# Altium integrated library ECA-1HM101.IntLib: 1 symbol
Pins are listed as number, name and electrical type; pins without a type are passive.

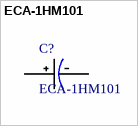
[diagram p0: symbol ECA-1HM101]

## ECA-1HM101
designator C?
Cap Aluminum Lytic 100uF 50V 20% _8 X 11.5mm_ Radial 3.5mm 250mA 2000h 85Ã‚Â°C Bulk; MF: Panasonic; SnapEDA_Link: https://www.snapeda.com/parts/ECA-1HM101/Panasonic%20Electronic%20Components/view-part/?ref=snap; Availability: Good; MP: ECA-1HM101; Package: Radial Panasonic; Price: 0.12 USD; Value: *
footprint CAPPRD350W60D800H1150B_ECA-1HM101(Primary)
pins: NEG, POS